# EAGLE library part SSM-108-L-SV (library SSM-108-L-SV)
Check prices <https://pricing.snapeda.com/parts/SSM-108-L-SV/Samtec/view-part?ref=eda>
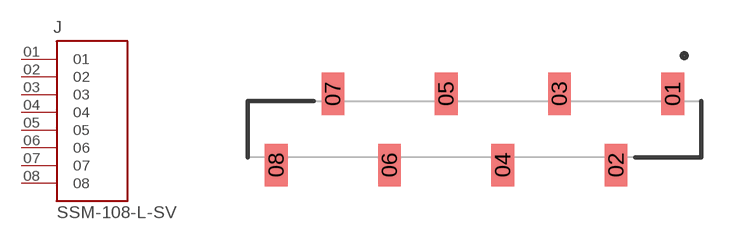
[diagram p0: symbol with the pads of SAMTEC_SSM-108-L-SV; footprint SAMTEC_SSM-108-L-SV]

Designator prefix J

## SSM-108-L-SV (Availability: In Stock; Description: 8 Position Receptacle, Pass Through Connector 0.100 (2.54mm) Surface Mount Gold; MF: Samtec; MP: SSM-108-L-SV; Package: None; Price: None; Purchase-URL: https://pricing.snapeda.com/search/part/SSM-108-L-SV/?ref=eda)  [SAMTEC_SSM-108-L-SV]
01  01  pas
02  02  pas
03  03  pas
04  04  pas
05  05  pas
06  06  pas
07  07  pas
08  08  pas

## Footprint SAMTEC_SSM-108-L-SV (pad centres in mm)
smd 1.02 x 1.905: 01 8.89,1.603; 02 6.35,-1.603; 03 3.81,1.603; 04 1.27,-1.603; 05 -1.27,1.603; 06 -3.81,-1.603; 07 -6.35,1.603; 08 -8.89,-1.603